# EAGLE library part DMMT5401 (library Erle)
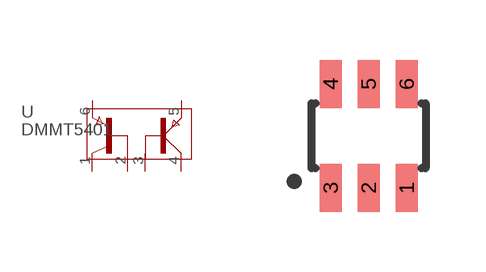
[diagram p1: symbol with the pads of SOT26; footprint SOT26]

Designator prefix -

## DMMT5401  [SOT26]
1  1  pas
2  2  pas
3  3  pas
4  4  pas
5  5  pas
6  6  pas

## Footprint SOT26 (pad centres in mm)
smd 0.55 x 1.2: 1 2.22,-1.3; 2 1.27,-1.3; 3 0.32,-1.3; 4 0.32,1.3; 5 1.27,1.3; 6 2.22,1.3